# Altium integrated library TI Power Management DC-DC Controller (External Switch).IntLib: 349 symbols (part 16 of 28)
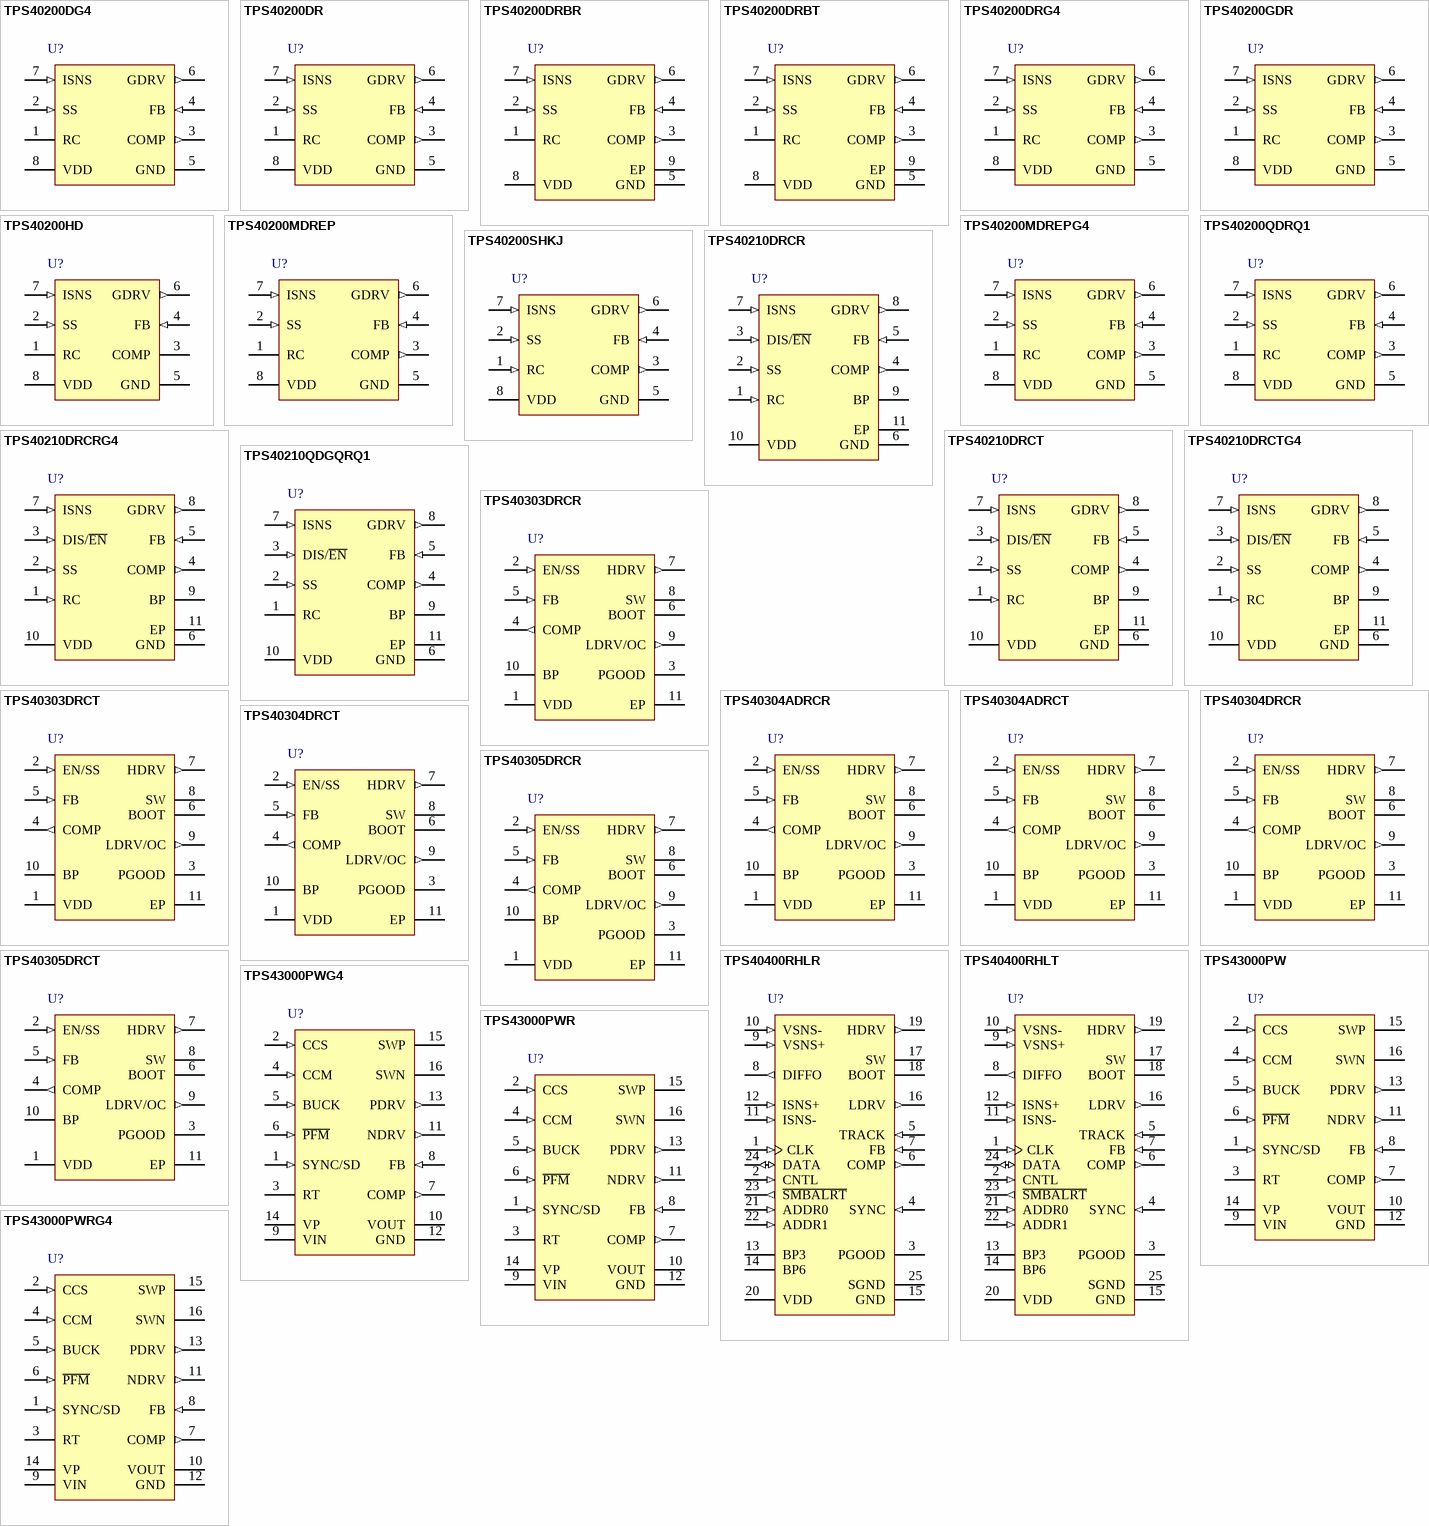
[diagram p29: symbols TPS40200DG4 to TPS43000PWRG4]

## TPS40305DRCR
designator U?
3 to 20 V Wide Input Synchronous Buck Controller for High Power Density, High Efficiency, 1.2 MHz, 85 % Duty Cycle, -40 to 125 degC, 10-pin SON (DRC), Green (RoHS & no Sb/Br); Manufacturer: Texas Instruments; PartNumber: TPS40305DRCR; Duty Cycle(Max)(%): 85; Iout(Max)(A): 25; Regulated Outputs(#): 1; SubFamily: Step-Down Controller; Switching Frequency(Max)(kHz): 1200; Synchronous Rectification: TRUE; Vin(Max)(V): 20; Vin(Min)(V): 3; Vout(Max)(V): 17; DatasheetVersion: SLUS964; PackageVersion: revL, Sep-2011; PackageReference: DRC10-2400X1650TP; PackageDescription: 10-Pin Plastic Small Outline No-Lead, 3 x 3 x 1 mm Body, 0.5 mm Pitch, Exposed Pad; Supplier 1: Digi-Key; Supplier Part Number 1: TPS40305DRCR-ND; Supplier 2: Mouser; Supplier Part Number 2: 595-TPS40305DRCR; Eco-Plan: Green (RoHS & no Sb/Br); Topology: Buck; Mounting Technology: Surface Mount; ComponentLink1Description: Datasheet; ComponentLink1URL: http://www.ti.com/general/docs/lit/getliterature.tsp?genericPartNumber=TPS40305&fileType=pdf; ComponentLink2Description: Package Specification; ComponentLink2URL: http://www.ti.com/litv/pdf/mpds117k
footprint DRC10-2400X1650TP (SON, 10-Leads, Body 3x3mm, Pitch 0.5mm, Thermal Pad 2.4x1.65mm, TI Recommended)
pins: 1 VDD (power) "Power input to the controller. Bypass VDD to GND with a low ESR ceramic capacitor of at least 1.0-µF close to the device", 2 EN/SS (in) "Logic level input which starts or stops the controller via an external user command. Letting this pin float turns the controller on. Pulling this pin low disables the controller. This is also the soft-start programming pin. (See Datasheet)", 3 PGOOD (oc) "Open drain power good output", 4 COMP (out) "Output of the error amplifier and connection node for loop feedback components", 5 FB (in) "Inverting input to the error amplifier. In normal operation, the voltage on this pin is equal to the internal reference voltage", 6 BOOT (power) "Gate drive voltage for the high side N-channel MOSFET. A 100 nF capacitor (typical) must be connected between this pin and SW. For low input voltage operation, an external schottky diode from BP to BOOT is recommended to (See Datasheet)", 7 HDRV (out) "Bootstrapped gate drive output for the high side N-channel MOSFET.", 8 SW (power) "Sense line for the adaptive anti-cross conduction circuitry. Serves as common connection for the flying high side FET driver", 9 LDRV/OC (out) "Gate drive output for the low side synchronous rectifier N-channel MOSFET. A resistor from this pin to GND is also used to determine the voltage level for OCP. An internal current source of 10 µA flows through the resistor (See Datasheet)", 10 BP (power) "Output bypass for the internal regulator. Connect a low ESR bypass ceramic capacitor of 1 µF or greater from this pin to GND", 11 EP (power) "Ground connection to the controller. This is also the thermal pad used to conduct heat from the device. This Thermal connection serves a twofold purpose. The first is to provide an electrical ground connection for the device.(See Datasheet)"

## TPS40305DRCT
designator U?
3 to 20 V Wide Input Synchronous Buck Controller for High Power Density, High Efficiency, 1.2 MHz, 85 % Duty Cycle, -40 to 125 degC, 10-pin SON (DRC), Green (RoHS & no Sb/Br); Manufacturer: Texas Instruments; PartNumber: TPS40305DRCT; Duty Cycle(Max)(%): 85; Iout(Max)(A): 25; Regulated Outputs(#): 1; SubFamily: Step-Down Controller; Switching Frequency(Max)(kHz): 1200; Synchronous Rectification: TRUE; Vin(Max)(V): 20; Vin(Min)(V): 3; Vout(Max)(V): 17; DatasheetVersion: SLUS964; PackageVersion: revL, Sep-2011; PackageReference: DRC10-2400X1650TP; PackageDescription: 10-Pin Plastic Small Outline No-Lead, 3 x 3 x 1 mm Body, 0.5 mm Pitch, Exposed Pad; Supplier 1: Digi-Key; Supplier Part Number 1: 296-25487-2-ND; Supplier 2: Digi-Key; Supplier Part Number 2: 296-25487-1-ND; Supplier 3: Digi-Key; Supplier Part Number 3: 296-25487-6-ND; Supplier 4: Newark; Supplier Part Number 4: 64R0744; Supplier 5: Mouser; Supplier Part Number 5: 595-TPS40305DRCT; Eco-Plan: Green (RoHS & no Sb/Br); Topology: Buck; Mounting Technology: Surface Mount; ComponentLink1Description: Datasheet; ComponentLink1URL: http://www.ti.com/general/docs/lit/getliterature.tsp?genericPartNumber=TPS40305&fileType=pdf; ComponentLink2Description: Package Specification; ComponentLink2URL: http://www.ti.com/litv/pdf/mpds117k
footprint DRC10-2400X1650TP (SON, 10-Leads, Body 3x3mm, Pitch 0.5mm, Thermal Pad 2.4x1.65mm, TI Recommended)
pins: 1 VDD (power) "Power input to the controller. Bypass VDD to GND with a low ESR ceramic capacitor of at least 1.0-µF close to the device", 2 EN/SS (in) "Logic level input which starts or stops the controller via an external user command. Letting this pin float turns the controller on. Pulling this pin low disables the controller. This is also the soft-start programming pin. (See Datasheet)", 3 PGOOD (oc) "Open drain power good output", 4 COMP (out) "Output of the error amplifier and connection node for loop feedback components", 5 FB (in) "Inverting input to the error amplifier. In normal operation, the voltage on this pin is equal to the internal reference voltage", 6 BOOT (power) "Gate drive voltage for the high side N-channel MOSFET. A 100 nF capacitor (typical) must be connected between this pin and SW. For low input voltage operation, an external schottky diode from BP to BOOT is recommended to (See Datasheet)", 7 HDRV (out) "Bootstrapped gate drive output for the high side N-channel MOSFET.", 8 SW (power) "Sense line for the adaptive anti-cross conduction circuitry. Serves as common connection for the flying high side FET driver", 9 LDRV/OC (out) "Gate drive output for the low side synchronous rectifier N-channel MOSFET. A resistor from this pin to GND is also used to determine the voltage level for OCP. An internal current source of 10 µA flows through the resistor (See Datasheet)", 10 BP (power) "Output bypass for the internal regulator. Connect a low ESR bypass ceramic capacitor of 1 µF or greater from this pin to GND", 11 EP (power) "Ground connection to the controller. This is also the thermal pad used to conduct heat from the device. This Thermal connection serves a twofold purpose. The first is to provide an electrical ground connection for the device.(See Datasheet)"

## TPS40400RHLR
designator U?
3 to 20 V PMBus Synchronous Buck Controller, 90 % Duty Cycle, -40 to 125 degC, 24-pin QFN (RHL), Green (RoHS & no Sb/Br); Manufacturer: Texas Instruments; PartNumber: TPS40400RHLR; Duty Cycle(Max)(%): 90; Iout(Max)(A): 30; Regulated Outputs(#): 1; SubFamily: Step-Down Controller; Switching Frequency(Max)(kHz): 2000; Synchronous Rectification: TRUE; Vin(Max)(V): 20; Vin(Min)(V): 3; DatasheetVersion: SLUS930B; PackageVersion: revJ, Dec-2011; PackageReference: RHL24-4050X2050TP; PackageDescription: 24-Leads Plastic Quad Flatpack No-Lead, 5.5 x 3.5 x 0.9 mm Body, 0.5 mm Pitch, Exposed Pad; Supplier 1: Digi-Key; Supplier Part Number 1: 296-29246-2-ND; Supplier 2: Digi-Key; Supplier Part Number 2: 296-29246-1-ND; Supplier 3: Digi-Key; Supplier Part Number 3: 296-29246-6-ND; Supplier 4: Farnell; Supplier Part Number 4: 1972805; Supplier 5: Newark; Supplier Part Number 5: 59T0119; Supplier 6: Newark; Supplier Part Number 6: 58T0338; Supplier 7: Mouser; Supplier Part Number 7: 595-TPS40400RHLR; Eco-Plan: Green (RoHS & no Sb/Br); Topology: Buck; Mounting Technology: Surface Mount; Code_JEDEC: MO-241; ComponentLink1Description: Datasheet; ComponentLink1URL: http://www.ti.com/general/docs/lit/getliterature.tsp?genericPartNumber=TPS40400&fileType=pdf; ComponentLink2Description: Package Specification; ComponentLink2URL: http://www.ti.com/litv/pdf/mpqf163h
footprint RHL24-4050X2050TP (QFN, 24-Leads, Body 5.5x3.5mm, Pitch 0.5mm, Thermal Pad 4.05x2.05mm, TI Recommended)
pins: 1 CLK (in) "Clock input for the PMBus interface", 2 CNTL (in) "Logic level input that controls the startup and shutdown of the converter, Exact functionality is determined by PMBus options.", 3 PGOOD (oc) "Power good output. This is an open drain output that pulls low when any fault condition exists within the device or when the device is not operating within a user selectable operating range of the nominal output voltage of (See Datasheet)", 4 SYNC (in) "Logic level input to the oscillator inside the controller. The oscillator resets on the rising edge of a pulse train applied to this pin and begin a new switching cycle.", 5 TRACK (in) "Analog input to the non inverting side of the control loop error amplifier. The error amplifier has three inputs (voltage reference, TRACK and soft-start ramp) to it’s “+” side, and the lowest voltage applied to these three (See Datasheet)", 6 COMP (out) "Output of the error amplifier. Used for control loop compensation.", 7 FB (in) "Inverting input to the error amplifier. A voltage divider is connected here to sense the output voltage.", 8 DIFFO (out) "Output of the unity gain remote voltage sense amplifier. Typically connected to the voltage divider on FB", 9 VSNS+ (in) "Non-inverting input to the unity gain remote voltage sense amplifier.", 10 VSNS- (in) "Inverting input to the unity gain remote voltage sense amplifier.", 11 ISNS- (in) "Inverting input to the current sense amplifier", 12 ISNS+ (in) "Non-inverting input to the current sense amplifier", 13 BP3 (power) "Bypass pin for the internal regulator that supplies power to the internal controls of the device. Normal regulation voltage is 3.3 V. Connect a 100 nF or larger capacitor from this pin to GND.", 14 BP6 (power) "Bypass pin for the internal regulator that supplies power to the gate drivers. Normal regulation voltage is 6.5 V.Connect a 1-uF or larger capacitor from this pin to GND.", 15 GND (power) "Common connection for the device. This pin should connect to the thermal pad under the device package and to the power stage ground, preferably close to the source of the Low-side or rectifier FET. Connections should be (See Datasheet)", 16 LDRV (out) "Output used to drive the gate of the low-side or rectifier FET.", 17 SW (power) "This is the common connection for the flying high-side FET driver and also serve as a sense line for the adaptive anti-cross-conduction circuitry", 18 BOOT (power) "Gate drive voltage for the high-side N-channel MOSFET. A capacitor 100 nF typical must be connected between this pin and SW.", 19 HDRV (out) "Gate drive signal to the high-side FET", 20 VDD (power) "Input power connection for the device. 3.0 V to 20 V required.", 21 ADDR0 (in) "High-order address pin for PMBus address configuration. One of eight resistor values must be connected from this pin to SGND to select the low-order octal digit in the PMBus address.", 22 ADDR1 (in) "High-order address pin for PMBus address configuration. One of eight resistor values must be connected from this pin to SGND to select the high-order octal digit in the PMBus address.", 23 ~{SMBALRT} (out) "Output used to signal that PMBus host that the controller needs attention.", 24 DATA (io) "Data I/O for the PMBus interface", 25 SGND (power) "Signal ground for the controller. Connect the ground of signal level circuits to this pin. Connections should be arranged so that power level currents do not flow in the pad attached to the thermal plane or in the SGND (See Datasheet)"

## TPS40400RHLT
designator U?
3 to 20 V PMBus Synchronous Buck Controller, 90 % Duty Cycle, -40 to 125 degC, 24-pin QFN (RHL), Green (RoHS & no Sb/Br); Manufacturer: Texas Instruments; PartNumber: TPS40400RHLT; Duty Cycle(Max)(%): 90; Iout(Max)(A): 30; Regulated Outputs(#): 1; SubFamily: Step-Down Controller; Switching Frequency(Max)(kHz): 2000; Synchronous Rectification: TRUE; Vin(Max)(V): 20; Vin(Min)(V): 3; DatasheetVersion: SLUS930B; PackageVersion: revJ, Dec-2011; PackageReference: RHL24-4050X2050TP; PackageDescription: 24-Leads Plastic Quad Flatpack No-Lead, 5.5 x 3.5 x 0.9 mm Body, 0.5 mm Pitch, Exposed Pad; Supplier 1: Digi-Key; Supplier Part Number 1: 296-29478-2-ND; Supplier 2: Digi-Key; Supplier Part Number 2: 296-29478-1-ND; Supplier 3: Digi-Key; Supplier Part Number 3: 296-29478-6-ND; Supplier 4: Newark; Supplier Part Number 4: 58T0339; Supplier 5: Mouser; Supplier Part Number 5: 595-TPS40400RHLT; Eco-Plan: Green (RoHS & no Sb/Br); Topology: Buck; Mounting Technology: Surface Mount; Code_JEDEC: MO-241; ComponentLink1Description: Datasheet; ComponentLink1URL: http://www.ti.com/general/docs/lit/getliterature.tsp?genericPartNumber=TPS40400&fileType=pdf; ComponentLink2Description: Package Specification; ComponentLink2URL: http://www.ti.com/litv/pdf/mpqf163h
footprint RHL24-4050X2050TP (QFN, 24-Leads, Body 5.5x3.5mm, Pitch 0.5mm, Thermal Pad 4.05x2.05mm, TI Recommended)
pins: 1 CLK (in) "Clock input for the PMBus interface", 2 CNTL (in) "Logic level input that controls the startup and shutdown of the converter, Exact functionality is determined by PMBus options.", 3 PGOOD (oc) "Power good output. This is an open drain output that pulls low when any fault condition exists within the device or when the device is not operating within a user selectable operating range of the nominal output voltage of (See Datasheet)", 4 SYNC (in) "Logic level input to the oscillator inside the controller. The oscillator resets on the rising edge of a pulse train applied to this pin and begin a new switching cycle.", 5 TRACK (in) "Analog input to the non inverting side of the control loop error amplifier. The error amplifier has three inputs (voltage reference, TRACK and soft-start ramp) to it’s “+” side, and the lowest voltage applied to these three (See Datasheet)", 6 COMP (out) "Output of the error amplifier. Used for control loop compensation.", 7 FB (in) "Inverting input to the error amplifier. A voltage divider is connected here to sense the output voltage.", 8 DIFFO (out) "Output of the unity gain remote voltage sense amplifier. Typically connected to the voltage divider on FB", 9 VSNS+ (in) "Non-inverting input to the unity gain remote voltage sense amplifier.", 10 VSNS- (in) "Inverting input to the unity gain remote voltage sense amplifier.", 11 ISNS- (in) "Inverting input to the current sense amplifier", 12 ISNS+ (in) "Non-inverting input to the current sense amplifier", 13 BP3 (power) "Bypass pin for the internal regulator that supplies power to the internal controls of the device. Normal regulation voltage is 3.3 V. Connect a 100 nF or larger capacitor from this pin to GND.", 14 BP6 (power) "Bypass pin for the internal regulator that supplies power to the gate drivers. Normal regulation voltage is 6.5 V.Connect a 1-uF or larger capacitor from this pin to GND.", 15 GND (power) "Common connection for the device. This pin should connect to the thermal pad under the device package and to the power stage ground, preferably close to the source of the Low-side or rectifier FET. Connections should be (See Datasheet)", 16 LDRV (out) "Output used to drive the gate of the low-side or rectifier FET.", 17 SW (power) "This is the common connection for the flying high-side FET driver and also serve as a sense line for the adaptive anti-cross-conduction circuitry", 18 BOOT (power) "Gate drive voltage for the high-side N-channel MOSFET. A capacitor 100 nF typical must be connected between this pin and SW.", 19 HDRV (out) "Gate drive signal to the high-side FET", 20 VDD (power) "Input power connection for the device. 3.0 V to 20 V required.", 21 ADDR0 (in) "High-order address pin for PMBus address configuration. One of eight resistor values must be connected from this pin to SGND to select the low-order octal digit in the PMBus address.", 22 ADDR1 (in) "High-order address pin for PMBus address configuration. One of eight resistor values must be connected from this pin to SGND to select the high-order octal digit in the PMBus address.", 23 ~{SMBALRT} (out) "Output used to signal that PMBus host that the controller needs attention.", 24 DATA (io) "Data I/O for the PMBus interface", 25 SGND (power) "Signal ground for the controller. Connect the ground of signal level circuits to this pin. Connections should be arranged so that power level currents do not flow in the pad attached to the thermal plane or in the SGND (See Datasheet)"

## TPS43000PW
designator U?
Multi-Topology (buck, boost, sepic) High Frequency DC / DC Controller, 100 % Duty Cycle, 1.8 to 9 V, -40 to 85 degC, 16-pin TSSOP (PW), Green (RoHS & no Sb/Br); Manufacturer: Texas Instruments; PartNumber: TPS43000PW; Duty Cycle(Max)(%): 100; Iout(Max)(A): 6; Regulated Outputs(#): 1; SubFamily: Buck-Boost, Inverting Switching Controller; Switching Frequency(Max)(kHz): 2000; Synchronous Rectification: TRUE; Topology: Boost, Flyback, SEPIC, Buck-Boost"; Vin(Max)(V): 9; Vin(Min)(V): 1.8; Vout(Max)(V): 8; Vout(Min)(V): 0.8; DatasheetVersion: SLUS489; PackageVersion: revG, Feb-2011; PackageReference: PW16; PackageDescription: 16-Pin Plastic Thin Small Outline Package 5 x 4.4 mm Body ,0.65 mm Pitch; Supplier 1: Digi-Key; Supplier Part Number 1: 296-12403-5-ND; Supplier 2: Farnell; Supplier Part Number 2: 1755454; Supplier 3: Newark; Supplier Part Number 3: 77C0466; Supplier 4: Mouser; Supplier Part Number 4: 595-TPS43000PW; Eco-Plan: Green (RoHS & no Sb/Br); Mounting Technology: Surface Mount; Code_JEDEC: MO-153; ComponentLink1Description: Datasheet; ComponentLink1URL: http://www.ti.com/general/docs/lit/getliterature.tsp?genericPartNumber=TPS43000&fileType=pdf; ComponentLink2Description: Package Specification; ComponentLink2URL: http://www.ti.com/litv/pdf/mpds361
footprint PW16_N (TSOP, 16-Leads, Body 5x4.4mm, Pitch 0.65mm, IPC Medium Density)
footprint PW16_L (TSOP, 16-Leads, Body 5x4.4mm, Pitch 0.65mm, IPC High Density)
footprint PW16_M (TSOP, 16-Leads, Body 5x4.4mm, Pitch 0.65mm, IPC Low Density)
pins: 1 SYNC/SD (in) "This dual-function pin is used to synchronize the oscillator or shutdown the controller, turning both MOSFETs off. A pulse from 0 V to 2 V provides synchronization. Duty cycle is not critical, but it must be at least 100 ns (See Datasheet)", 2 CCS (in) "Current limit feature allowing selection of either pulse-by-pulse current limiting or hiccup mode overcurrent protection. Connect this pin to VIN to select pulse-by-pulse current limiting, the constant current source mode. (See Datasheet)", 3 RT "A resistor from this pin to ground sets the PWM frequency.", 4 CCM (in) "Input pin determines whether or not the lZERO comparator allows discontinuous conduction mode operation. Pulling this pin high ignores the Izero comparator’s output, forcing continuous conduction mode. Connecting it to (See Datasheet)", 5 BUCK (in) "Input pin to select topology. Connect this pin to VIN for a buck converter, ground it for a boost or SEPIC. This configures the logic to the two gate drive outputs, and controls DMAX. This pin has a weak internal pulldown.", 6 ~{PFM} (in) "Input pin that disables/enables PFM operation. Connecting it to VIN disables PFM mode. Grounding this pin enables PFM to occur automatically, based on lzero. This pin has a weak internal pulldown.", 7 COMP (out) "Output of the error amplifier. The compensation components are connected from this pin to the FB pin. During sleep mode, this pin goes to high impedance, and is severed from the internal error amplifier’s output so that it (See Datasheet)", 8 FB (in) "Inverting input to the error amplifier. It is connected to a resistor divider off of VOUT, and to the compensation network.", 9 VIN (power) "Input supply for the device. It provides power to the device, and may be used for the N-channel gate drive. Provide good local decoupling", 10 VOUT (power) "Connect this pin to the power supply output. It may be used for the gate drive to the N-channel MOSFET. Provide good local decoupling.", 11 NDRV (out) "Gate drive output for the N-channel MOSFET (energizing MOSFET for the boost and SEPIC, rectifier MOSFET for the buck).", 12 GND (power) "Ground pin for the device.", 13 PDRV (out) "Gate drive output for the P-channel MOSFET (energizing MOSFET for the buck, rectifier MOSFET for the boost and SEPIC).", 14 VP (power) "Power rail input pin for the P-channel MOSFET gate driver. Connect this pin to VIN for a buck, and to VOUT for a boost or SEPIC. Provide good local decoupling.", 15 SWP (power) "Connect this pin through a 1-k ohm resistor to the drain of the P-channel MOSFET for all topologies. It detects Izero pulses using the synchronous rectifier MOSFET. For the SEPIC topology, a Schottky clamp tied to ground (See Datasheet)", 16 SWN (power) "Connect this pin through a 1-k ohm resistor to the drain of the N-channel MOSFET for all topologies. It senses overcurrent conditions using the inductor energizing MOSFET."

## TPS43000PWG4
designator U?
Multi-Topology (buck, boost, sepic) High Frequency DC / DC Controller, 100 % Duty Cycle, 1.8 to 9 V, -40 to 85 degC, 16-pin TSSOP (PW), Green (RoHS & no Sb/Br); Manufacturer: Texas Instruments; PartNumber: TPS43000PWG4; Duty Cycle(Max)(%): 100; Iout(Max)(A): 6; Regulated Outputs(#): 1; SubFamily: Buck-Boost, Inverting Switching Controller; Switching Frequency(Max)(kHz): 2000; Synchronous Rectification: TRUE; Topology: Boost, Flyback, SEPIC, Buck-Boost"; Vin(Max)(V): 9; Vin(Min)(V): 1.8; Vout(Max)(V): 8; Vout(Min)(V): 0.8; DatasheetVersion: SLUS489; PackageVersion: revG, Feb-2011; PackageReference: PW16; PackageDescription: 16-Pin Plastic Thin Small Outline Package 5 x 4.4 mm Body ,0.65 mm Pitch; Supplier 1: Digi-Key; Supplier Part Number 1: TPS43000PWG4-ND; Supplier 2: Newark; Supplier Part Number 2: 80K3401; Supplier 3: Mouser; Supplier Part Number 3: 595-TPS43000PWG4; Eco-Plan: Green (RoHS & no Sb/Br); Mounting Technology: Surface Mount; Code_JEDEC: MO-153; ComponentLink1Description: Datasheet; ComponentLink1URL: http://www.ti.com/general/docs/lit/getliterature.tsp?genericPartNumber=TPS43000&fileType=pdf; ComponentLink2Description: Package Specification; ComponentLink2URL: http://www.ti.com/litv/pdf/mpds361
footprint PW16_N (TSOP, 16-Leads, Body 5x4.4mm, Pitch 0.65mm, IPC Medium Density)
footprint PW16_L (TSOP, 16-Leads, Body 5x4.4mm, Pitch 0.65mm, IPC High Density)
footprint PW16_M (TSOP, 16-Leads, Body 5x4.4mm, Pitch 0.65mm, IPC Low Density)
pins: 1 SYNC/SD (in) "This dual-function pin is used to synchronize the oscillator or shutdown the controller, turning both MOSFETs off. A pulse from 0 V to 2 V provides synchronization. Duty cycle is not critical, but it must be at least 100 ns (See Datasheet)", 2 CCS (in) "Current limit feature allowing selection of either pulse-by-pulse current limiting or hiccup mode overcurrent protection. Connect this pin to VIN to select pulse-by-pulse current limiting, the constant current source mode. (See Datasheet)", 3 RT "A resistor from this pin to ground sets the PWM frequency.", 4 CCM (in) "Input pin determines whether or not the lZERO comparator allows discontinuous conduction mode operation. Pulling this pin high ignores the Izero comparator’s output, forcing continuous conduction mode. Connecting it to (See Datasheet)", 5 BUCK (in) "Input pin to select topology. Connect this pin to VIN for a buck converter, ground it for a boost or SEPIC. This configures the logic to the two gate drive outputs, and controls DMAX. This pin has a weak internal pulldown.", 6 ~{PFM} (in) "Input pin that disables/enables PFM operation. Connecting it to VIN disables PFM mode. Grounding this pin enables PFM to occur automatically, based on lzero. This pin has a weak internal pulldown.", 7 COMP (out) "Output of the error amplifier. The compensation components are connected from this pin to the FB pin. During sleep mode, this pin goes to high impedance, and is severed from the internal error amplifier’s output so that it (See Datasheet)", 8 FB (in) "Inverting input to the error amplifier. It is connected to a resistor divider off of VOUT, and to the compensation network.", 9 VIN (power) "Input supply for the device. It provides power to the device, and may be used for the N-channel gate drive. Provide good local decoupling", 10 VOUT (power) "Connect this pin to the power supply output. It may be used for the gate drive to the N-channel MOSFET. Provide good local decoupling.", 11 NDRV (out) "Gate drive output for the N-channel MOSFET (energizing MOSFET for the boost and SEPIC, rectifier MOSFET for the buck).", 12 GND (power) "Ground pin for the device.", 13 PDRV (out) "Gate drive output for the P-channel MOSFET (energizing MOSFET for the buck, rectifier MOSFET for the boost and SEPIC).", 14 VP (power) "Power rail input pin for the P-channel MOSFET gate driver. Connect this pin to VIN for a buck, and to VOUT for a boost or SEPIC. Provide good local decoupling.", 15 SWP (power) "Connect this pin through a 1-k ohm resistor to the drain of the P-channel MOSFET for all topologies. It detects Izero pulses using the synchronous rectifier MOSFET. For the SEPIC topology, a Schottky clamp tied to ground (See Datasheet)", 16 SWN (power) "Connect this pin through a 1-k ohm resistor to the drain of the N-channel MOSFET for all topologies. It senses overcurrent conditions using the inductor energizing MOSFET."

## TPS43000PWR
designator U?
Multi-Topology (buck, boost, sepic) High Frequency DC / DC Controller, 100 % Duty Cycle, 1.8 to 9 V, -40 to 85 degC, 16-pin TSSOP (PW), Green (RoHS & no Sb/Br); Manufacturer: Texas Instruments; PartNumber: TPS43000PWR; Duty Cycle(Max)(%): 100; Iout(Max)(A): 6; Regulated Outputs(#): 1; SubFamily: Buck-Boost, Inverting Switching Controller; Switching Frequency(Max)(kHz): 2000; Synchronous Rectification: TRUE; Topology: Boost, Flyback, SEPIC, Buck-Boost"; Vin(Max)(V): 9; Vin(Min)(V): 1.8; Vout(Max)(V): 8; Vout(Min)(V): 0.8; DatasheetVersion: SLUS489; PackageVersion: revG, Feb-2011; PackageReference: PW16; PackageDescription: 16-Pin Plastic Thin Small Outline Package 5 x 4.4 mm Body ,0.65 mm Pitch; Supplier 1: Digi-Key; Supplier Part Number 1: TPS43000PWR-ND; Supplier 2: Newark; Supplier Part Number 2: 77C0467; Supplier 3: Mouser; Supplier Part Number 3: 595-TPS43000PWR; Eco-Plan: Green (RoHS & no Sb/Br); Mounting Technology: Surface Mount; Code_JEDEC: MO-153; ComponentLink1Description: Datasheet; ComponentLink1URL: http://www.ti.com/general/docs/lit/getliterature.tsp?genericPartNumber=TPS43000&fileType=pdf; ComponentLink2Description: Package Specification; ComponentLink2URL: http://www.ti.com/litv/pdf/mpds361
footprint PW16_N (TSOP, 16-Leads, Body 5x4.4mm, Pitch 0.65mm, IPC Medium Density)
footprint PW16_L (TSOP, 16-Leads, Body 5x4.4mm, Pitch 0.65mm, IPC High Density)
footprint PW16_M (TSOP, 16-Leads, Body 5x4.4mm, Pitch 0.65mm, IPC Low Density)
pins: 1 SYNC/SD (in) "This dual-function pin is used to synchronize the oscillator or shutdown the controller, turning both MOSFETs off. A pulse from 0 V to 2 V provides synchronization. Duty cycle is not critical, but it must be at least 100 ns (See Datasheet)", 2 CCS (in) "Current limit feature allowing selection of either pulse-by-pulse current limiting or hiccup mode overcurrent protection. Connect this pin to VIN to select pulse-by-pulse current limiting, the constant current source mode. (See Datasheet)", 3 RT "A resistor from this pin to ground sets the PWM frequency.", 4 CCM (in) "Input pin determines whether or not the lZERO comparator allows discontinuous conduction mode operation. Pulling this pin high ignores the Izero comparator’s output, forcing continuous conduction mode. Connecting it to (See Datasheet)", 5 BUCK (in) "Input pin to select topology. Connect this pin to VIN for a buck converter, ground it for a boost or SEPIC. This configures the logic to the two gate drive outputs, and controls DMAX. This pin has a weak internal pulldown.", 6 ~{PFM} (in) "Input pin that disables/enables PFM operation. Connecting it to VIN disables PFM mode. Grounding this pin enables PFM to occur automatically, based on lzero. This pin has a weak internal pulldown.", 7 COMP (out) "Output of the error amplifier. The compensation components are connected from this pin to the FB pin. During sleep mode, this pin goes to high impedance, and is severed from the internal error amplifier’s output so that it (See Datasheet)", 8 FB (in) "Inverting input to the error amplifier. It is connected to a resistor divider off of VOUT, and to the compensation network.", 9 VIN (power) "Input supply for the device. It provides power to the device, and may be used for the N-channel gate drive. Provide good local decoupling", 10 VOUT (power) "Connect this pin to the power supply output. It may be used for the gate drive to the N-channel MOSFET. Provide good local decoupling.", 11 NDRV (out) "Gate drive output for the N-channel MOSFET (energizing MOSFET for the boost and SEPIC, rectifier MOSFET for the buck).", 12 GND (power) "Ground pin for the device.", 13 PDRV (out) "Gate drive output for the P-channel MOSFET (energizing MOSFET for the buck, rectifier MOSFET for the boost and SEPIC).", 14 VP (power) "Power rail input pin for the P-channel MOSFET gate driver. Connect this pin to VIN for a buck, and to VOUT for a boost or SEPIC. Provide good local decoupling.", 15 SWP (power) "Connect this pin through a 1-k ohm resistor to the drain of the P-channel MOSFET for all topologies. It detects Izero pulses using the synchronous rectifier MOSFET. For the SEPIC topology, a Schottky clamp tied to ground (See Datasheet)", 16 SWN (power) "Connect this pin through a 1-k ohm resistor to the drain of the N-channel MOSFET for all topologies. It senses overcurrent conditions using the inductor energizing MOSFET."

## TPS43000PWRG4
designator U?
Multi-Topology (buck, boost, sepic) High Frequency DC / DC Controller, 100 % Duty Cycle, 1.8 to 9 V, -40 to 85 degC, 16-pin TSSOP (PW), Green (RoHS & no Sb/Br); Manufacturer: Texas Instruments; PartNumber: TPS43000PWRG4; Duty Cycle(Max)(%): 100; Iout(Max)(A): 6; Regulated Outputs(#): 1; SubFamily: Buck-Boost, Inverting Switching Controller; Switching Frequency(Max)(kHz): 2000; Synchronous Rectification: TRUE; Topology: Boost, Flyback, SEPIC, Buck-Boost"; Vin(Max)(V): 9; Vin(Min)(V): 1.8; Vout(Max)(V): 8; Vout(Min)(V): 0.8; DatasheetVersion: SLUS489; PackageVersion: revG, Feb-2011; PackageReference: PW16; PackageDescription: 16-Pin Plastic Thin Small Outline Package 5 x 4.4 mm Body ,0.65 mm Pitch; Supplier 1: Digi-Key; Supplier Part Number 1: TPS43000PWRG4-ND; Supplier 2: Newark; Supplier Part Number 2: 54K1661; Supplier 3: Mouser; Supplier Part Number 3: 595-TPS43000PWRG4; Eco-Plan: Green (RoHS & no Sb/Br); Mounting Technology: Surface Mount; Code_JEDEC: MO-153; ComponentLink1Description: Datasheet; ComponentLink1URL: http://www.ti.com/general/docs/lit/getliterature.tsp?genericPartNumber=TPS43000&fileType=pdf; ComponentLink2Description: Package Specification; ComponentLink2URL: http://www.ti.com/litv/pdf/mpds361
footprint PW16_N (TSOP, 16-Leads, Body 5x4.4mm, Pitch 0.65mm, IPC Medium Density)
footprint PW16_L (TSOP, 16-Leads, Body 5x4.4mm, Pitch 0.65mm, IPC High Density)
footprint PW16_M (TSOP, 16-Leads, Body 5x4.4mm, Pitch 0.65mm, IPC Low Density)
pins: 1 SYNC/SD (in) "This dual-function pin is used to synchronize the oscillator or shutdown the controller, turning both MOSFETs off. A pulse from 0 V to 2 V provides synchronization. Duty cycle is not critical, but it must be at least 100 ns (See Datasheet)", 2 CCS (in) "Current limit feature allowing selection of either pulse-by-pulse current limiting or hiccup mode overcurrent protection. Connect this pin to VIN to select pulse-by-pulse current limiting, the constant current source mode. (See Datasheet)", 3 RT "A resistor from this pin to ground sets the PWM frequency.", 4 CCM (in) "Input pin determines whether or not the lZERO comparator allows discontinuous conduction mode operation. Pulling this pin high ignores the Izero comparator’s output, forcing continuous conduction mode. Connecting it to (See Datasheet)", 5 BUCK (in) "Input pin to select topology. Connect this pin to VIN for a buck converter, ground it for a boost or SEPIC. This configures the logic to the two gate drive outputs, and controls DMAX. This pin has a weak internal pulldown.", 6 ~{PFM} (in) "Input pin that disables/enables PFM operation. Connecting it to VIN disables PFM mode. Grounding this pin enables PFM to occur automatically, based on lzero. This pin has a weak internal pulldown.", 7 COMP (out) "Output of the error amplifier. The compensation components are connected from this pin to the FB pin. During sleep mode, this pin goes to high impedance, and is severed from the internal error amplifier’s output so that it (See Datasheet)", 8 FB (in) "Inverting input to the error amplifier. It is connected to a resistor divider off of VOUT, and to the compensation network.", 9 VIN (power) "Input supply for the device. It provides power to the device, and may be used for the N-channel gate drive. Provide good local decoupling", 10 VOUT (power) "Connect this pin to the power supply output. It may be used for the gate drive to the N-channel MOSFET. Provide good local decoupling.", 11 NDRV (out) "Gate drive output for the N-channel MOSFET (energizing MOSFET for the boost and SEPIC, rectifier MOSFET for the buck).", 12 GND (power) "Ground pin for the device.", 13 PDRV (out) "Gate drive output for the P-channel MOSFET (energizing MOSFET for the buck, rectifier MOSFET for the boost and SEPIC).", 14 VP (power) "Power rail input pin for the P-channel MOSFET gate driver. Connect this pin to VIN for a buck, and to VOUT for a boost or SEPIC. Provide good local decoupling.", 15 SWP (power) "Connect this pin through a 1-k ohm resistor to the drain of the P-channel MOSFET for all topologies. It detects Izero pulses using the synchronous rectifier MOSFET. For the SEPIC topology, a Schottky clamp tied to ground (See Datasheet)", 16 SWN (power) "Connect this pin through a 1-k ohm resistor to the drain of the N-channel MOSFET for all topologies. It senses overcurrent conditions using the inductor energizing MOSFET."

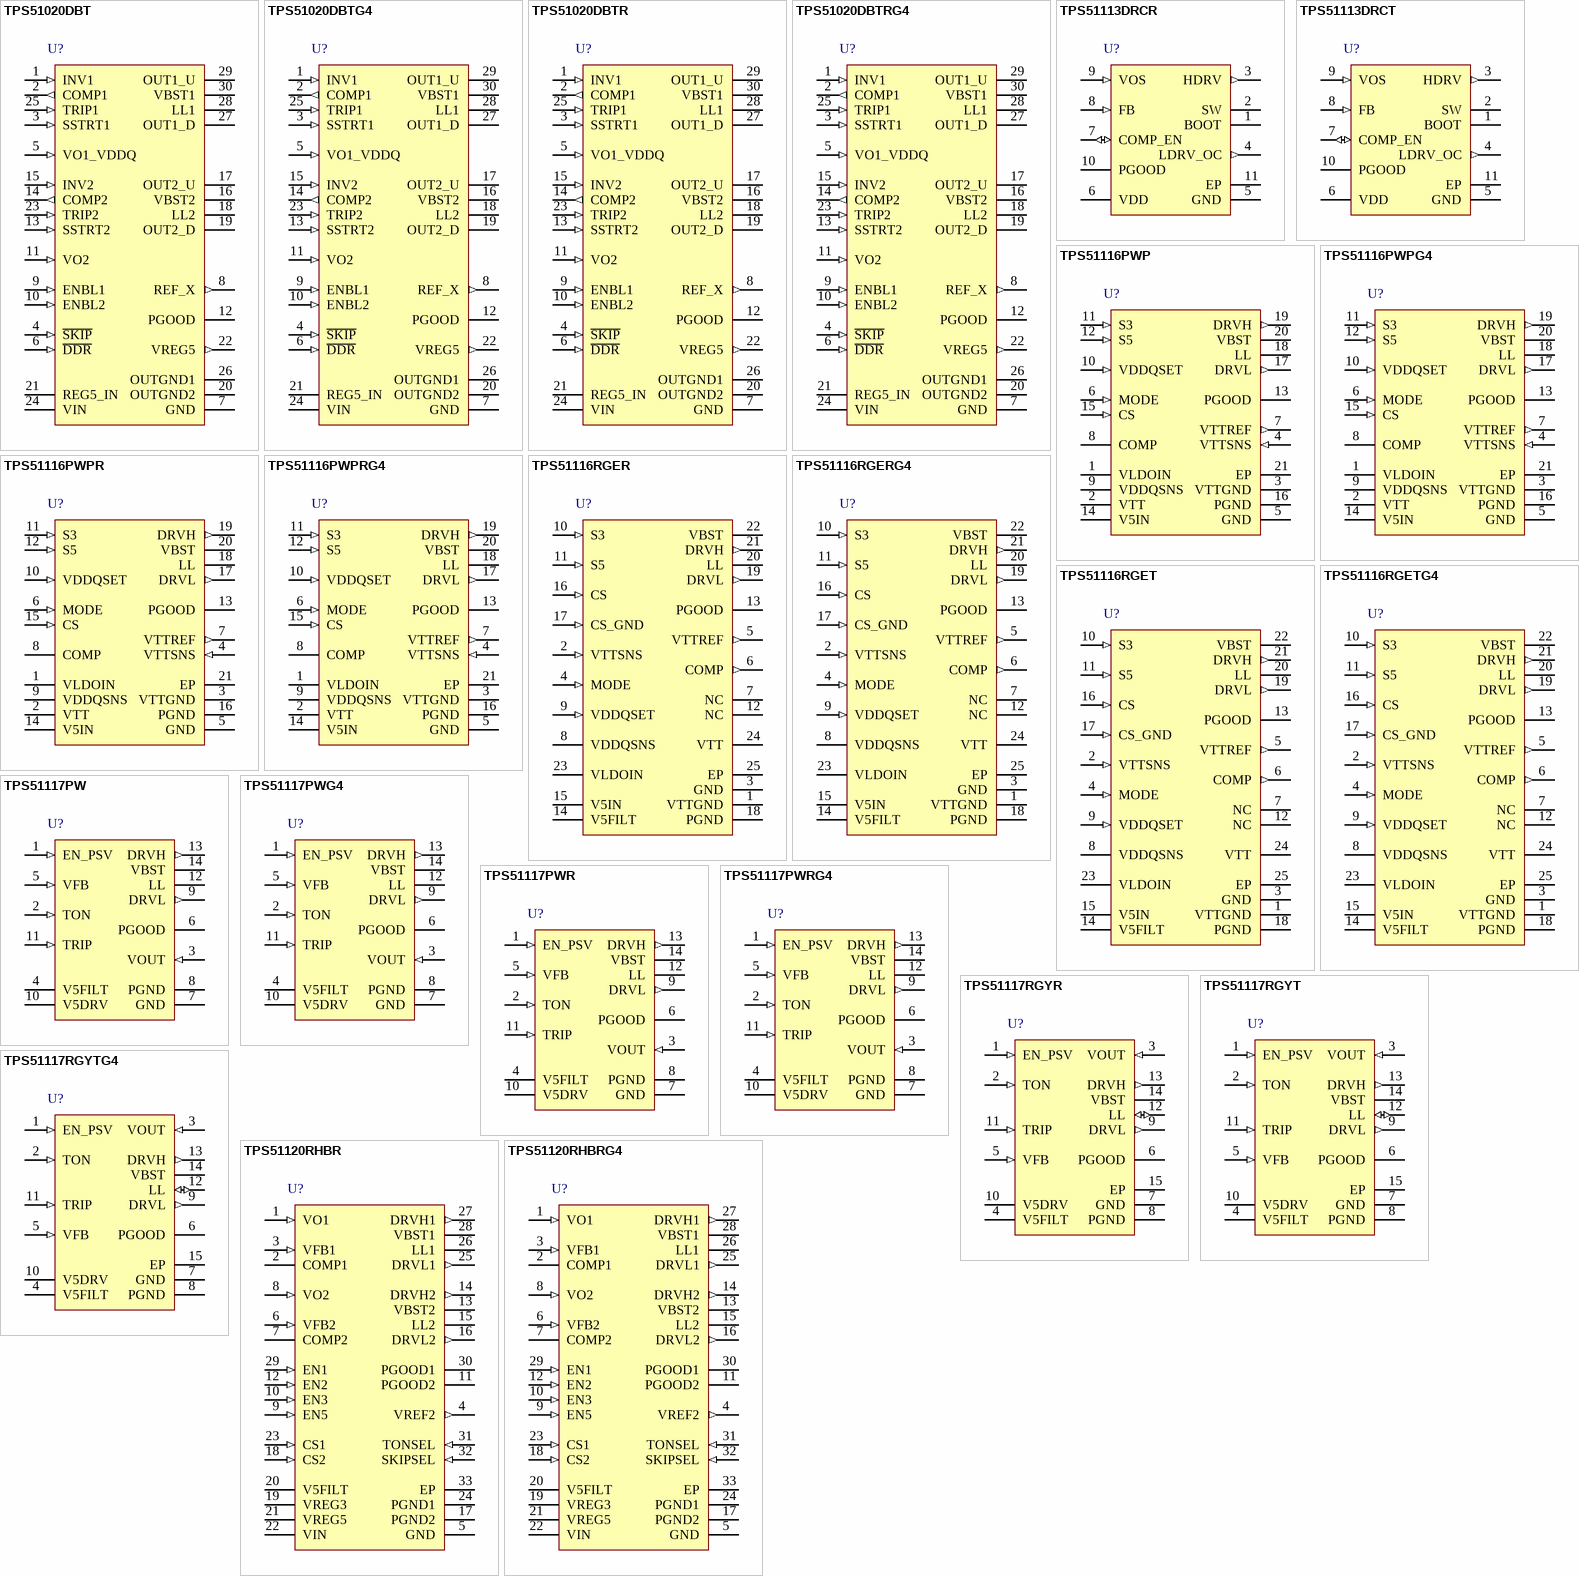
[diagram p9: symbols TPS51020DBT to TPS51120RHBRG4]

## TPS51020DBT
designator U?
Dual, DDR selectable, Synchronous buck controller, 88 % Duty Cycle, 4.5 to 28 V, -40 to 85 degC, 30-pin TSSOP (DBT), Green (RoHS & no Sb/Br); Manufacturer: Texas Instruments; PartNumber: TPS51020DBT; Duty Cycle(Max)(%): 88; Iout(Max)(A): 20; Regulated Outputs(#): 2; SubFamily: Multiple-Output Switching Controller; Switching Frequency(Max)(kHz): 450; Synchronous Rectification: TRUE; Vin(Max)(V): 28; Vin(Min)(V): 4.5; Vout(Max)(V): 24; Vout(Min)(V): 0.9; DatasheetVersion: SLUS564C; PackageVersion: Sep-2005; PackageReference: DBT30; PackageDescription: 30-Pin Thin Shrink Small Outline Package 0.5 mm Pitch; Supplier 1: Digi-Key; Supplier Part Number 1: 296-15896-5-ND; Supplier 2: Farnell; Supplier Part Number 2: 1652440; Supplier 3: Newark; Supplier Part Number 3: 87H2887; Supplier 4: Mouser; Supplier Part Number 4: 595-TPS51020DBT; Eco-Plan: Green (RoHS & no Sb/Br); Iout2(A): 20; Topology: Buck; Vout2(Max)(V): 24; Vout2(Min)(V): 0.9; Mounting Technology: Surface Mount; Code_JEDEC: MO-153; ComponentLink1Description: Datasheet; ComponentLink1URL: http://www.ti.com/general/docs/lit/getliterature.tsp?genericPartNumber=TPS51020&fileType=pdf; ComponentLink2Description: Package Specification; ComponentLink2URL: http://www.ti.com/litv/pdf/mpds019h
footprint DBT30_N (TSSOP, 30-Leads, Body 7.8x4.4mm, Pitch 0.5mm, IPC Medium Density)
footprint DBT30_L (TSSOP, 30-Leads, Body 7.8x4.4mm, Pitch 0.5mm, IPC High Density)
footprint DBT30_M (TSSOP, 30-Leads, Body 7.8x4.4mm, Pitch 0.5mm, IPC Low Density)
pins: 1 INV1 (in) "Error amplifier inverting input. Also input for skip comparator, and OVP/UVP comparators.", 2 COMP1 (out) "Error amplifier output. Connect feedback network to this pin and INVx for compensation of control loop.", 3 SSTRT1 (in) "Soft-start/frequency select input. Connect a capacitor between SSTRTx and ground for adjusting the softstart time. A constant current fed to this capacitor ramps the reference during startup. Frequency selection is de- (See Datasheet)", 4 ~{SKIP} (in) "Skip mode selection pin. Ground for automatic control between PWM mode in heavy load and hysteretic operation in light load. Tie high for PWM only operation for the entire load condition. If D\D\R\ is grounded, then skip (See Datasheet)", 5 VO1_VDDQ (in) "Output discharge pin. Connect this pin to the SMPS output. The output is discharged to at least 0.3 V before the channel can start-up again. If D\D\R\ is low, then the VO1_VDDQ pin must be connected to the VDDQ output since (See Datasheet)", 6 ~{DDR} (in) "D\D\R\ selection pin. If this pin is grounded, the device runs in DDR Mode. The error amplifier reference for VO2 is (VO1_VDDQ)/2, the REF_X output voltage becomes (VO1_VDDQ)/2 and skip mode is disabled for VO2, Also, VREG5 (See Datasheet)", 7 GND (power) "Signal ground pin.", 8 REF_X (out) "10-V N-channel MOSFET bias or (VO1_VDDQ)/2 reference output. If dual mode is selected (D\D\R\ > 2.2 V) then this pin provides a low 10-V current (< 2 mA) bias, dropped down from VIN, for the SO - S5 switched N-channel (See Datasheet)", 9 ENBL1 (in) "TTL Enable Input. If ENBLx is greater than 2.2 V, then the VREG5 is enabled (DDR mode) and the SMPS of that channel attempts to turn on. If both ENBL1 and ENBL2 are low then the 10-V (or (VO1_VDDQ)/2 output) voltage as well (See Datasheet)", 10 ENBL2 (in) "TTL Enable Input. If ENBLx is greater than 2.2 V, then the VREG5 is enabled (DDR mode) and the SMPS of that channel attempts to turn on. If both ENBL1 and ENBL2 are low then the 10-V (or (VO1_VDDQ)/2 output) voltage as well (See Datasheet)", 11 VO2 (in) "Output discharge pin. Connect this pin to the SMPS output. The output is discharged to at least 0.3 V before the channel can start-up again. If D\D\R\ is low, then the VO1_VDDQ pin must be connected to the VDDQ output since (See Datasheet)", 12 PGOOD (oc) "Power good output. This is an open drain pull-down pin for power good. It remains low during soft-start until both outputs become within +/-7.5%. If INV1 or INV2 is out of regulation, or VREG5V goes under UVLO then this pin (See Datasheet)", 13 SSTRT2 (in) "Soft-start/frequency select input. Connect a capacitor between SSTRTx and ground for adjusting the softstart time. A constant current fed to this capacitor ramps the reference during startup. Frequency selection is de- (See Datasheet)", 14 COMP2 (out) "Error amplifier output. Connect feedback network to this pin and INVx for compensation of control loop.", 15 INV2 (in) "Error amplifier inverting input. Also input for skip comparator, and OVP/UVP comparators.", 16 VBST2 (power) "Supply Input for high-side N-channel FET driver. Typically connected via charge pump from LLx.", 17 OUT2_U (hiz) "High-side N-channel MOSFET driver output.", 18 LL2 (power) "Switch-node connection for high-side driver and overcurrent protection circuitry.", 19 OUT2_D (hiz) "Synchronous N-channel MOSFET driver output.", 20 OUTGND2 (power) "Ground return for OUTx_D.", 21 REG5_IN (power) "External 5V regulator Input. If this pin is above 4.7 V, then the 5 V circuit bias switches from the VREF5 to the supply presented to REG5_IN.", 22 VREG5 (out) "Internal, 60-mA, 5-V regulator output. D\D\R\, ENBL1 or ENBL2 high ( > 2.2V) turns on the 5 V regulator.", 23 TRIP2 (in) "Channel 2 overcurrent trip point voltage input. Connect a resistor between TRIP2 and the high-side N-channel MOSFET input conversion voltage for high-side N-channel MOSFET UVP current limit shut down with a 180degrees (See Datasheet)", 24 VIN (power) "High-voltage input. Typically the battery voltage. This pin serves as inputs for the VREF5 regulator, the REF_X regulator and positive input for overcurrent comparators. Precaution should be taken for tracing between this (See Datasheet)", 25 TRIP1 (in) "Channel 1 overcurrent trip point voltage input. Connect a resistor between TRIP1 and the high-side N-channel MOSFET input conversion voltage for high-side N-channel MOSFET UVP current limit shut down. Connect resistor (See Datasheet)", 26 OUTGND1 (power) "Ground return for OUTx_D.", 27 OUT1_D (hiz) "Synchronous N-channel MOSFET driver output.", 28 LL1 (power) "Switch-node connection for high-side driver and overcurrent protection circuitry.", 29 OUT1_U (hiz) "High-side N-channel MOSFET driver output.", 30 VBST1 (power) "Supply Input for high-side N-channel FET driver. Typically connected via charge pump from LLx."

## TPS51020DBTG4
designator U?
Dual, DDR selectable, Synchronous buck controller, 88 % Duty Cycle, 4.5 to 28 V, -40 to 85 degC, 30-pin TSSOP (DBT), Green (RoHS & no Sb/Br); Manufacturer: Texas Instruments; PartNumber: TPS51020DBTG4; Duty Cycle(Max)(%): 88; Iout(Max)(A): 20; Regulated Outputs(#): 2; SubFamily: Multiple-Output Switching Controller; Switching Frequency(Max)(kHz): 450; Synchronous Rectification: TRUE; Vin(Max)(V): 28; Vin(Min)(V): 4.5; Vout(Max)(V): 24; Vout(Min)(V): 0.9; DatasheetVersion: SLUS564C; PackageVersion: Sep-2005; PackageReference: DBT30; PackageDescription: 30-Pin Thin Shrink Small Outline Package 0.5 mm Pitch; Supplier 1: Digi-Key; Supplier Part Number 1: TPS51020DBTG4-ND; Supplier 2: Newark; Supplier Part Number 2: 57K1324; Supplier 3: Mouser; Supplier Part Number 3: 595-TPS51020DBTG4; Eco-Plan: Green (RoHS & no Sb/Br); Iout2(A): 20; Topology: Buck; Vout2(Max)(V): 24; Vout2(Min)(V): 0.9; Mounting Technology: Surface Mount; Code_JEDEC: MO-153; ComponentLink1Description: Datasheet; ComponentLink1URL: http://www.ti.com/general/docs/lit/getliterature.tsp?genericPartNumber=TPS51020&fileType=pdf; ComponentLink2Description: Package Specification; ComponentLink2URL: http://www.ti.com/litv/pdf/mpds019h
footprint DBT30_N (TSSOP, 30-Leads, Body 7.8x4.4mm, Pitch 0.5mm, IPC Medium Density)
footprint DBT30_L (TSSOP, 30-Leads, Body 7.8x4.4mm, Pitch 0.5mm, IPC High Density)
footprint DBT30_M (TSSOP, 30-Leads, Body 7.8x4.4mm, Pitch 0.5mm, IPC Low Density)
pins: 1 INV1 (in) "Error amplifier inverting input. Also input for skip comparator, and OVP/UVP comparators.", 2 COMP1 (out) "Error amplifier output. Connect feedback network to this pin and INVx for compensation of control loop.", 3 SSTRT1 (in) "Soft-start/frequency select input. Connect a capacitor between SSTRTx and ground for adjusting the softstart time. A constant current fed to this capacitor ramps the reference during startup. Frequency selection is de- (See Datasheet)", 4 ~{SKIP} (in) "Skip mode selection pin. Ground for automatic control between PWM mode in heavy load and hysteretic operation in light load. Tie high for PWM only operation for the entire load condition. If D\D\R\ is grounded, then skip (See Datasheet)", 5 VO1_VDDQ (in) "Output discharge pin. Connect this pin to the SMPS output. The output is discharged to at least 0.3 V before the channel can start-up again. If D\D\R\ is low, then the VO1_VDDQ pin must be connected to the VDDQ output since (See Datasheet)", 6 ~{DDR} (in) "D\D\R\ selection pin. If this pin is grounded, the device runs in DDR Mode. The error amplifier reference for VO2 is (VO1_VDDQ)/2, the REF_X output voltage becomes (VO1_VDDQ)/2 and skip mode is disabled for VO2, Also, VREG5 (See Datasheet)", 7 GND (power) "Signal ground pin.", 8 REF_X (out) "10-V N-channel MOSFET bias or (VO1_VDDQ)/2 reference output. If dual mode is selected (D\D\R\ > 2.2 V) then this pin provides a low 10-V current (< 2 mA) bias, dropped down from VIN, for the SO - S5 switched N-channel (See Datasheet)", 9 ENBL1 (in) "TTL Enable Input. If ENBLx is greater than 2.2 V, then the VREG5 is enabled (DDR mode) and the SMPS of that channel attempts to turn on. If both ENBL1 and ENBL2 are low then the 10-V (or (VO1_VDDQ)/2 output) voltage as well (See Datasheet)", 10 ENBL2 (in) "TTL Enable Input. If ENBLx is greater than 2.2 V, then the VREG5 is enabled (DDR mode) and the SMPS of that channel attempts to turn on. If both ENBL1 and ENBL2 are low then the 10-V (or (VO1_VDDQ)/2 output) voltage as well (See Datasheet)", 11 VO2 (in) "Output discharge pin. Connect this pin to the SMPS output. The output is discharged to at least 0.3 V before the channel can start-up again. If D\D\R\ is low, then the VO1_VDDQ pin must be connected to the VDDQ output since (See Datasheet)", 12 PGOOD (oc) "Power good output. This is an open drain pull-down pin for power good. It remains low during soft-start until both outputs become within +/-7.5%. If INV1 or INV2 is out of regulation, or VREG5V goes under UVLO then this pin (See Datasheet)", 13 SSTRT2 (in) "Soft-start/frequency select input. Connect a capacitor between SSTRTx and ground for adjusting the softstart time. A constant current fed to this capacitor ramps the reference during startup. Frequency selection is de- (See Datasheet)", 14 COMP2 (out) "Error amplifier output. Connect feedback network to this pin and INVx for compensation of control loop.", 15 INV2 (in) "Error amplifier inverting input. Also input for skip comparator, and OVP/UVP comparators.", 16 VBST2 (power) "Supply Input for high-side N-channel FET driver. Typically connected via charge pump from LLx.", 17 OUT2_U (hiz) "High-side N-channel MOSFET driver output.", 18 LL2 (power) "Switch-node connection for high-side driver and overcurrent protection circuitry.", 19 OUT2_D (hiz) "Synchronous N-channel MOSFET driver output.", 20 OUTGND2 (power) "Ground return for OUTx_D.", 21 REG5_IN (power) "External 5V regulator Input. If this pin is above 4.7 V, then the 5 V circuit bias switches from the VREF5 to the supply presented to REG5_IN.", 22 VREG5 (out) "Internal, 60-mA, 5-V regulator output. D\D\R\, ENBL1 or ENBL2 high ( > 2.2V) turns on the 5 V regulator.", 23 TRIP2 (in) "Channel 2 overcurrent trip point voltage input. Connect a resistor between TRIP2 and the high-side N-channel MOSFET input conversion voltage for high-side N-channel MOSFET UVP current limit shut down with a 180degrees (See Datasheet)", 24 VIN (power) "High-voltage input. Typically the battery voltage. This pin serves as inputs for the VREF5 regulator, the REF_X regulator and positive input for overcurrent comparators. Precaution should be taken for tracing between this (See Datasheet)", 25 TRIP1 (in) "Channel 1 overcurrent trip point voltage input. Connect a resistor between TRIP1 and the high-side N-channel MOSFET input conversion voltage for high-side N-channel MOSFET UVP current limit shut down. Connect resistor (See Datasheet)", 26 OUTGND1 (power) "Ground return for OUTx_D.", 27 OUT1_D (hiz) "Synchronous N-channel MOSFET driver output.", 28 LL1 (power) "Switch-node connection for high-side driver and overcurrent protection circuitry.", 29 OUT1_U (hiz) "High-side N-channel MOSFET driver output.", 30 VBST1 (power) "Supply Input for high-side N-channel FET driver. Typically connected via charge pump from LLx."